# Altium footprint library Connectors-USB - DVI - HDMI.PcbLib: 45 footprints (part 2 of 3)
Each footprint in its own frame and in the unit in brackets; x right, y up, seen from the top. Pads: shape width x height; smd on the part's side, far side on the other; paste and mask are expansions set on the pad; w line width, h text height; cw(c..) or ccw(c..) is an arc to the next point about the centre after c.
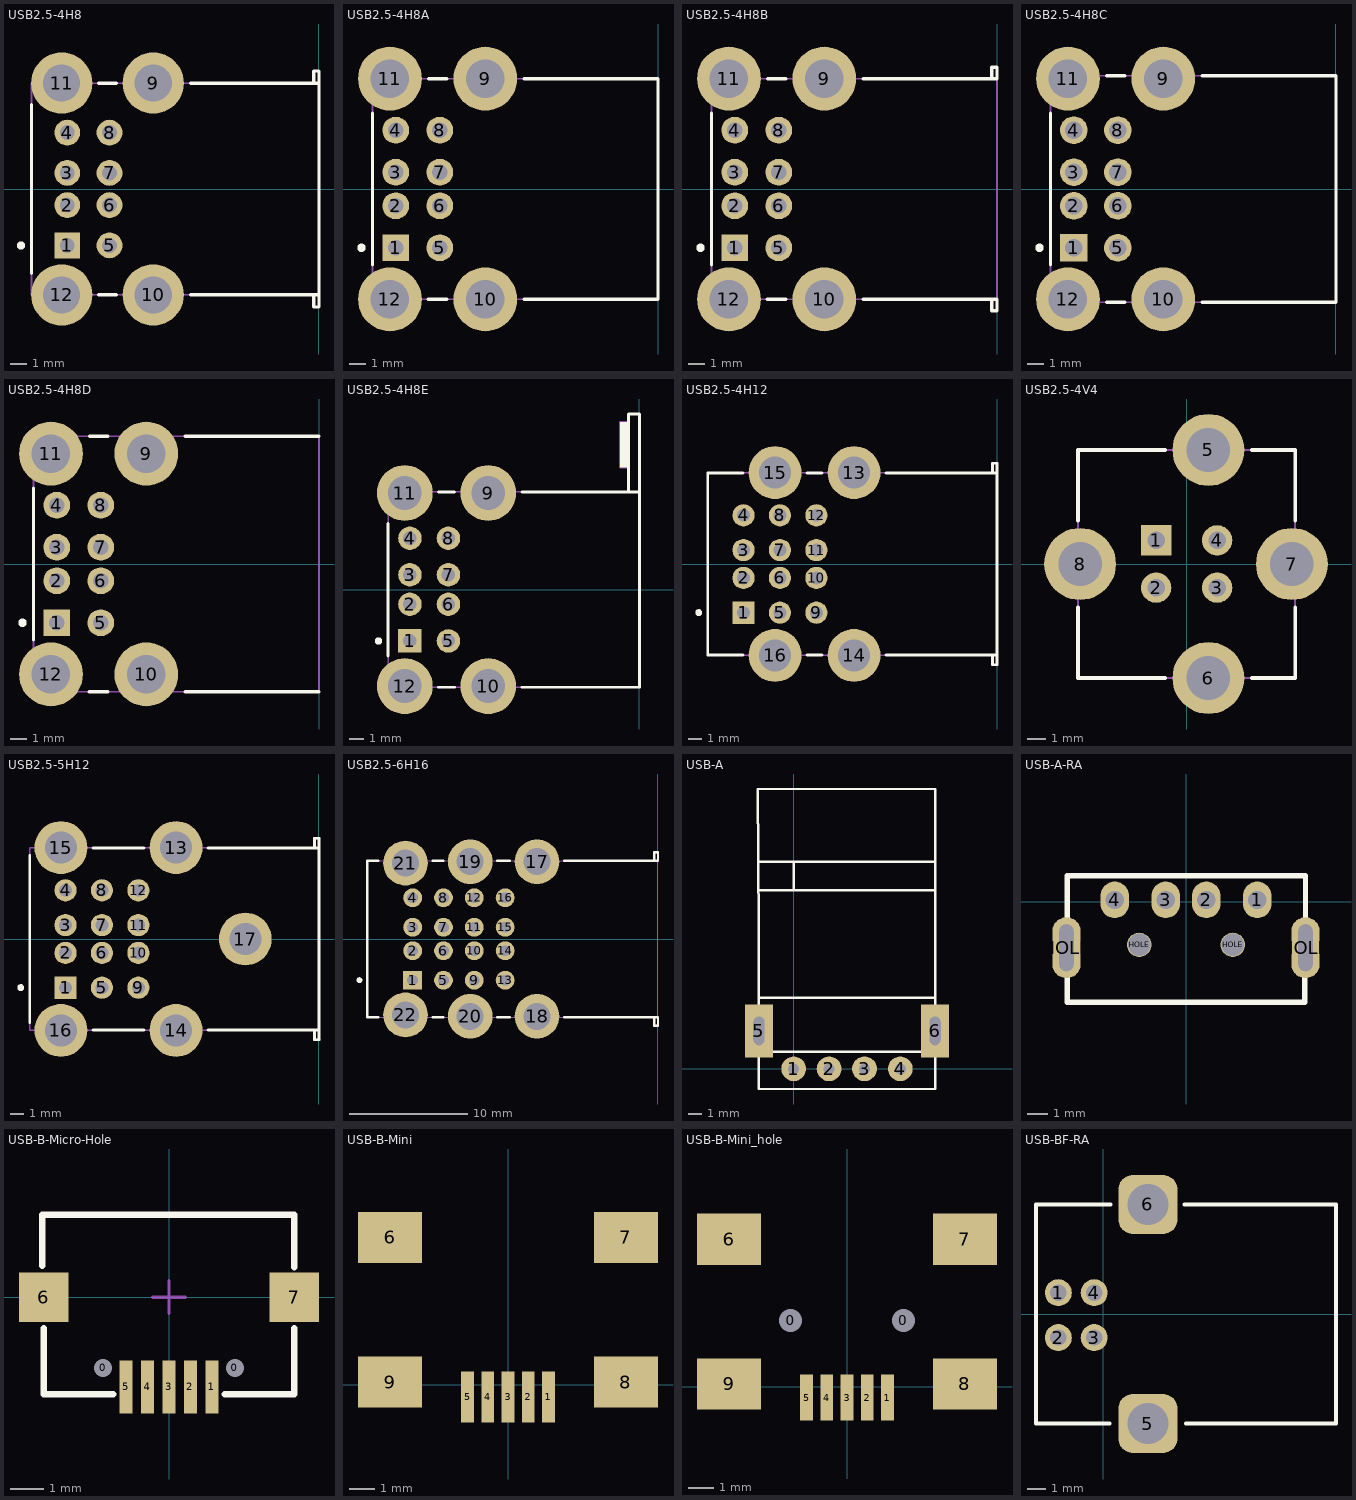
[diagram p1: the footprints below, top view; thin cyan lines are the x and y axes]

## USB2.5-4H8 [mm] "Connector; USB1.1, Type A, Thru-Hole; 4x4 Position; Right Angle"
height 15.82
pads (12):
  rect 1.6x1.6 hole 0.92: 1(-15.61,-3.5)
  round 1.6 hole 0.92: 2(-15.61,-1) 3(-15.61,1) 4(-15.61,3.5) 5(-12.99,-3.5) 6(-12.99,-1) 7(-12.99,1) 8(-12.99,3.5)
  round 3.8 hole 2.3: 9(-10.28,6.57) 10(-10.28,-6.57) 11(-15.96,6.57) 12(-15.96,-6.57)
Top Overlay:
  circle w0.25: c-18.48,-3.5 r0.125
  lines w0.2: -17.83,-5.23 -17.83,5.23 ; -13.66,-6.565 -12.58,-6.565 ; -13.66,6.565 -12.58,6.565 ; -7.97,-6.565 0,-6.565 ; -7.97,6.565 0,6.565 ; -0.32,-6.565 -0.32,-7.315 0,-7.315 0,-6.565 ; -0.32,6.565 -0.32,7.315 0,7.315 0,6.565 ; 0,-6.565 0,6.565
3D:
  lines w0.1: -17.83,-6.565 -0.32,-6.565 -0.32,-7.315 0,-7.315 0,7.315 -0.32,7.315 -0.32,6.565 -17.83,6.565 -17.83,-6.565
3D body: height 15.82, standoff 0, extent -17.829,-7.314 -0.001,7.314

## USB2.5-4H8A [mm] "Connector; USB1.1, Type A, Thru-Hole; 4x4 Position; Right Angle"
height 15.51
pads (12):
  rect 1.6x1.6 hole 0.92: 1(-15.61,-3.5)
  round 1.6 hole 0.92: 2(-15.61,-1) 3(-15.61,1) 4(-15.61,3.5) 5(-12.99,-3.5) 6(-12.99,-1) 7(-12.99,1) 8(-12.99,3.5)
  round 3.8 hole 2.3: 9(-10.28,6.57) 10(-10.28,-6.57) 11(-15.96,6.57) 12(-15.96,-6.57)
Top Overlay:
  circle w0.25: c-17.65,-3.5 r0.125
  lines w0.2: -17,-4.51 -17,4.51 ; -13.68,-6.565 -12.58,-6.565 ; -13.66,6.565 -12.58,6.565 ; -7.97,-6.565 0,-6.565 0,6.565 -7.97,6.565
3D:
  lines w0.1: -17,-6.565 -17,6.565 0,6.565 0,-6.565 -17,-6.565
3D body: height 15.51, standoff 0, extent -17,-6.565 0,6.565

## USB2.5-4H8B [mm] "Connector; USB1.1, Type A, Thru-Hole; 4x4 Position; Right Angle"
height 15.82
pads (12):
  rect 1.6x1.6 hole 0.92: 1(-15.61,-3.5)
  round 1.6 hole 0.92: 2(-15.61,-1) 3(-15.61,1) 4(-15.61,3.5) 5(-12.99,-3.5) 6(-12.99,-1) 7(-12.99,1) 8(-12.99,3.5)
  round 3.8 hole 2.3: 9(-10.28,6.57) 10(-10.28,-6.57) 11(-15.96,6.57) 12(-15.96,-6.57)
Top Overlay:
  circle w0.25: c-17.65,-3.5 r0.125
  lines w0.2: -17,-4.51 -17,4.51 ; -13.68,-6.57 -12.58,-6.57 ; -13.66,6.57 -12.58,6.57 ; -7.97,-6.57 0,-6.57 0,-7.25 -0.32,-7.25 -0.32,-6.57 ; -7.97,6.57 0,6.57 0,7.25 -0.32,7.25 -0.32,6.57
Top HCB:
  lines w0.1: 0,-6.57 0,6.57
  text "PCB Edge" at -0.368,-6.15 h0.2
3D:
  lines w0.1: -17,-7.25 -17,7.25 ; -17,-6.57 -0.32,-6.57 -0.32,-7.25 0,-7.25 0,7.25 -0.32,7.25 -0.32,6.57 -17,6.57
3D body: height 15.82, standoff 0, extent -16.999,-7.249 -0.001,7.249

## USB2.5-4H8C [mm] "Connector; USB1.1, Type A, Thru-Hole; 4x4 Position; Right Angle"
height 15.82
pads (12):
  rect 1.65x1.65 hole 1.02: 1(-15.6,-3.5)
  round 1.65 hole 1.02: 2(-15.6,-1) 3(-15.6,1) 4(-15.6,3.5) 5(-12.98,-3.5) 6(-12.98,-1) 7(-12.98,1) 8(-12.98,3.5)
  round 3.8 hole 2.3: 9(-10.27,6.57) 10(-10.27,-6.57) 11(-15.95,6.57) 12(-15.95,-6.57)
Top Overlay:
  circle w0.25: c-17.64,-3.5 r0.125
  lines w0.2: -16.99,-4.51 -16.99,4.51 ; -13.65,-6.75 -12.57,-6.75 ; -13.65,6.75 -12.57,6.75 ; -7.97,-6.75 0.01,-6.75 0.01,6.75 -7.97,6.75
3D:
  lines w0.1: -16.99,-6.75 0.01,-6.75 0.01,6.75 -16.99,6.75 -16.99,-6.75
3D body: height 15.82, standoff 0, extent -16.99,-6.75 0.01,6.75

## USB2.5-4H8D [mm] "Connector; USB1.1, Type A, Thru-Hole; 4x4 Position; Right Angle"
height 16.8
pads (12):
  rect 1.6x1.6 hole 0.92: 1(-15.61,-3.5)
  round 1.6 hole 0.92: 2(-15.61,-1) 3(-15.61,1) 4(-15.61,3.5) 5(-12.99,-3.5) 6(-12.99,-1) 7(-12.99,1) 8(-12.99,3.5)
  round 3.8 hole 2.3: 9(-10.28,6.57) 10(-10.28,-6.57) 11(-15.96,6.57) 12(-15.96,-6.57)
Top Overlay:
  circle w0.25: c-17.65,-3.5 r0.125
  lines w0.2: -17,-4.51 -17,4.51 ; -13.68,-7.6 -12.58,-7.6 ; -13.66,7.6 -12.58,7.6 ; -7.97,-7.6 0,-7.6 ; -7.97,7.6 0,7.6
Top HCB:
  lines w0.1: 0,-7.6 0,7.6
  text "PCB Edge" at -0.2,-7.29 h0.2
3D:
  lines w0.1: -17,-7.6 0,-7.6 0,7.6 -17,7.6 -17,-7.6
3D body: height 16.8, standoff 0, extent -17,-7.6 0,7.6

## USB2.5-4H8E [mm] "Connector; USB1.1, Type A, Thru-Hole; 4x4 Position; Right Angle"
height 15.47
pads (12):
  rect 1.6x1.6 hole 0.92: 1(-15.61,-3.5)
  round 1.6 hole 0.92: 2(-15.61,-1) 3(-15.61,1) 4(-15.61,3.5) 5(-12.99,-3.5) 6(-12.99,-1) 7(-12.99,1) 8(-12.99,3.5)
  round 3.8 hole 2.3: 9(-10.28,6.57) 10(-10.28,-6.57) 11(-15.96,6.57) 12(-15.96,-6.57)
Top Overlay:
  circle w0.25: c-17.75,-3.5 r0.125
  rectangle: -1.33,8.3 -0.75,11.42
  lines w0.2: -17.1,-4.51 -17.1,4.51 ; -13.68,-6.65 -12.58,-6.65 ; -13.66,6.65 -12.58,6.65 ; -7.97,-6.65 0,-6.65 0,6.65 ; -7.97,6.65 0,6.65 ; -0.75,6.65 -0.75,11.95 0,11.95 0,6.65
3D:
  lines w0.1: -0.75,8.3 -1.33,8.3 -1.33,11.42 -0.75,11.42 ; -17.1,-6.65 0,-6.65 0,11.95 -0.75,11.95 -0.75,6.65 -17.1,6.65 -17.1,-6.65
3D body: height 15.47, standoff 0, extent -17.099,-6.649 -0.001,11.949
3D body: height 15.47, standoff 0, extent -1.329,8.301 -0.751,11.419

## USB2.5-4H12 [mm] "Connector; USB1.1, Type A, Thru-Hole; 4x4x4 Position; Right Angle"
height 23.9
pads (16):
  rect 1.6x1.6 hole 0.92: 1(-18.23,-3.5)
  round 1.6 hole 0.92: 2(-18.23,-1) 3(-18.23,1) 4(-18.23,3.5) 5(-15.61,-3.5) 6(-15.61,-1) 7(-15.61,1) 8(-15.61,3.5) 9(-12.99,-3.5) 10(-12.99,-1) 11(-12.99,1) 12(-12.99,3.5)
  round 3.8 hole 2.3: 13(-10.28,6.57) 14(-10.28,-6.57) 15(-15.96,6.57) 16(-15.96,-6.57)
Top Overlay:
  circle w0.25: c-21.45,-3.5 r0.125
  lines w0.2: -18.26,-6.55 -20.8,-6.55 -20.8,6.55 -18.26,6.55 ; -13.66,-6.55 -12.58,-6.55 ; -13.66,6.55 -12.58,6.55 ; -7.98,-6.55 0,-6.55 ; -7.98,6.55 0,6.55 ; -0.32,-6.55 -0.32,-7.25 0,-7.25 0,-6.55 ; -0.32,6.55 -0.32,7.25 0,7.25 0,6.55 ; 0,-6.55 0,6.55
3D:
  lines w0.1: -20.8,-6.55 -0.32,-6.55 -0.32,-7.25 0,-7.25 0,7.25 -0.32,7.25 -0.32,6.55 -20.8,6.55 -20.8,-6.55
3D body: height 23.9, standoff 0, extent -20.799,-7.249 -0.001,7.249

## USB2.5-4V4 [mm] "Connector; USB1.1, Type B, Thru-Hole; 4 Position; Vertical"
height 15.62
pads (8):
  rect 1.6x1.6 hole 0.92: 1(-1.61,1.25)
  round 1.6 hole 0.92: 2(-1.61,-1.25) 3(1.61,-1.25) 4(1.61,1.25)
  round 3.8 hole 2.3: 5(1.15,6.02) 6(1.15,-6.02) 7(5.56,0) 8(-5.63,0)
Top Overlay:
  lines w0.2: -5.73,-2.3 -5.73,-6.02 -1.15,-6.02 ; -5.73,2.3 -5.73,6.02 -1.15,6.02 ; 3.45,-6.02 5.73,-6.02 5.73,-2.3 ; 3.45,6.02 5.73,6.02 5.73,2.3
3D:
  lines w0.1: -5.73,-6.02 5.73,-6.02 5.73,6.02 -5.73,6.02 -5.73,-6.02
3D body: height 15.62, standoff 0, extent -5.73,-6.02 5.73,6.02

## USB2.5-5H12 [mm] "Connector; USB1.1, Type A, Thru-Hole; 4x4x4 Position; Right Angle"
height 23.9
pads (17):
  rect 1.6x1.6 hole 0.92: 1(-18.23,-3.5)
  round 1.6 hole 0.92: 2(-18.23,-1) 3(-18.23,1) 4(-18.23,3.5) 5(-15.61,-3.5) 6(-15.61,-1) 7(-15.61,1) 8(-15.61,3.5) 9(-12.99,-3.5) 10(-12.99,-1) 11(-12.99,1) 12(-12.99,3.5)
  round 3.8 hole 2.3: 13(-10.28,6.57) 14(-10.28,-6.57) 15(-18.56,6.57) 16(-18.56,-6.57) 17(-5.3,0)
Top Overlay:
  circle w0.25: c-21.45,-3.5 r0.125
  lines w0.2: -20.8,-6.03 -20.8,6.03 ; -16.26,-6.55 -12.58,-6.55 ; -16.26,6.55 -12.58,6.55 ; -7.98,-6.55 0,-6.55 ; -7.98,6.55 0,6.55 ; -0.32,-6.55 -0.32,-7.25 0,-7.25 0,-6.55 ; -0.32,6.55 -0.32,7.25 0,7.25 0,6.55 ; 0,-6.55 0,6.55
3D:
  lines w0.1: -0.32,-7.25 -0.32,-6.55 -20.8,-6.55 -20.8,6.55 -0.32,6.55 -0.32,7.25 ; 0,-7.25 0,7.25
  lines w0.2: -0.32,-7.25 0,-7.25 ; -0.32,7.25 0,7.25
3D body: height 23.9, standoff 0, extent -20.799,-7.249 -0.001,7.249

## USB2.5-6H16 [mm] "Connector; USB1.1, Type A, Thru-Hole; 4x4x4x4 Position; Right Angle"
height 32.84
pads (22):
  rect 1.6x1.6 hole 0.92: 1(-20.85,-3.5)
  round 1.6 hole 0.92: 2(-20.85,-1) 3(-20.85,1) 4(-20.85,3.5) 5(-18.23,-3.5) 6(-18.23,-1) 7(-18.23,1) 8(-18.23,3.5) 9(-15.61,-3.5) 10(-15.61,-1) 11(-15.61,1) 12(-15.61,3.5) 13(-12.99,-3.5) 14(-12.99,-1) 15(-12.99,1) 16(-12.99,3.5)
  round 3.8 hole 2.3: 17(-10.28,6.57) 18(-10.28,-6.57) 19(-15.96,6.57) 20(-15.96,-6.57) 21(-21.46,6.45) 22(-21.46,-6.45)
Top Overlay:
  circle w0.25: c-25.37,-3.5 r0.125
  lines w0.2: -23.76,-6.65 -24.72,-6.65 -24.72,6.65 -23.76,6.65 ; -19.16,-6.65 -18.26,-6.65 ; -19.16,6.65 -18.26,6.65 ; -13.66,-6.65 -12.58,-6.65 ; -13.66,6.65 -12.58,6.65 ; -7.98,-6.65 0,-6.65 0,-7.37 -0.32,-7.37 -0.32,-6.65 ; -7.98,6.65 0,6.65 0,7.37 -0.32,7.37 -0.32,6.65
Top HCB:
  lines w0.1: 0,-6.65 0,6.65
  text "PCB Edge" at -0.258,-6.292 h0.2
3D:
  lines w0.1: -0.32,-7.37 -0.32,-6.65 -24.72,-6.65 -24.72,6.65 -0.32,6.65 -0.32,7.37 ; 0,-7.37 0,7.37
  lines w0.2: -0.32,-7.37 0,-7.37 ; -0.32,7.37 0,7.37
3D body: height 32.84, standoff 0, extent -24.719,-7.369 -0.001,7.369

## USB-A [mil]
pads (6):
  round 70 hole 31: 1(0,0) 2(100,0) 3(200,0) 4(301,0)
  rect 80x150 hole 31 slot 80 at 90 deg: 5(-98,107) 6(399,107)
Top Overlay:
  lines w7: -99,200 400,200 ; -99,504 400,504 ; -99,584 400,584 ; -98,48 401,48 ; 0,504 0,584 ; -101.03,790 -99,397 -99,-57 400,-57 400,790 -101.03,790
3D body "usb_a-usb_a-lp-c.stp": height 177.17, standoff -51.16, extent -97.29,-0.22 399,784.22

## USB-A-RA [mm] "USB Type A"
pads (8):
  oval 1.4x1.8 hole 0.9: 1(3.5,0.08) 2(1,0.08) 3(-1,0.08) 4(-3.5,0.08)
  oval 1.4x3 hole 0.7 slot 2.3 at 90 deg: HOLE(-5.875,-2.27) HOLE(5.875,-2.27)
  round 1.2 hole 1.1: HOLE(-2.3,-2.13) HOLE(2.3,-2.13)
Top Overlay:
  lines w0.254: 5.842,-2.27 5.842,-4.953 -5.842,-4.953 -5.842,1.27 5.875,1.27 5.875,-2.27
Keep-Out Layer:
  lines w0.254: 5.842,-2.27 5.875,-2.27
3D body "Samtec-USB-AM-S-F-B-TH-FlashDrive.step": height 2.18, standoff -3.52, extent -6.25,-19.8 6.25,0.23

## USB-B-Micro-Hole [mm]
pads (9):
  round 0.4 hole 0.55: 0(-2,-2.15) 0(2,-2.15)
  rect 0.4x1.6 smd: 1(1.3,-2.725) 2(0.65,-2.725) 3(0,-2.725) 4(-0.65,-2.725) 5(-1.3,-2.725)
  rect 1.5x1.5 smd: 6(-3.8,0) 7(3.8,0)
Top Overlay:
  lines w0.2: -3.85,0.95 -3.85,2.5 3.8,2.5 3.8,0.9 ; -3.8,-0.95 -3.8,-2.95 -1.7,-2.95 ; 1.7,-2.95 3.8,-2.95 3.8,-0.95
Mechanical 15:
  lines w0.1: -0.5,0 0.5,0 ; 0,-0.5 0,0.5
3D body "User Library-Micro USB.STEP": height 2.71, standoff -0.23, extent -3.99,-2.95 3.99,2.48

## USB-B-Mini [mm]
pads (9):
  rect 0.5x2 smd: 1(1.575,-0.481) 2(0.787,-0.481) 3(0,-0.481) 4(-0.787,-0.481) 5(-1.575,-0.481)
  rect 2.5x2 smd: 6(-4.6,5.74) 7(4.6,5.74) 8(4.6,0.1) 9(-4.6,0.1)
3D body "User Library-USB_mini_B.step": height 3.95, standoff -1, extent -5.35,-0.673 5.35,8.527

## USB-B-Mini_hole [mm]
pads (11):
  round 0.7 hole 0.9: 0(-2.2,2.58) 0(2.2,2.58)
  rect 0.5x1.8 smd: 1(1.575,-0.431) 2(0.787,-0.431) 3(0,-0.431) 4(-0.787,-0.431) 5(-1.575,-0.431)
  rect 2.5x2 smd: 6(-4.6,5.74) 7(4.6,5.74) 8(4.6,0.1) 9(-4.6,0.1)
3D body "User Library-USB_mini_B.step": height 3.95, standoff -1, extent -5.35,-0.673 5.35,8.527

## USB-BF-RA [mm] "USB-B type Female Righ Angle"
height 7.78
pads (6):
  round 1.5 hole 0.9: 1(-2.494,1.187) 2(-2.494,-1.313) 3(-0.494,-1.313) 4(-0.494,1.187)
  rrect50% 3.3x3.3 hole 2.3: 5(2.494,-6.096) 6(2.494,6.096)
Top Overlay:
  lines w0.2: 0.374,-6.096 -3.734,-6.096 -3.734,6.096 0.43,6.096 ; 4.507,6.096 12.961,6.096 12.961,-6.096 4.609,-6.096
3D body "Samtec-USB-B-S-F-B-TH-Strange.step": height 10.98, standoff -3.24, extent -3.344,-7.493 12.956,7.367